# Altium footprint library SMD Capacitors Other.PcbLib: 6 footprints
Each footprint in its own frame and in the unit in brackets; x right, y up, seen from the top. Pads: shape width x height; smd on the part's side, far side on the other; paste and mask are expansions set on the pad; w line width, h text height; cw(c..) or ccw(c..) is an arc to the next point about the centre after c.
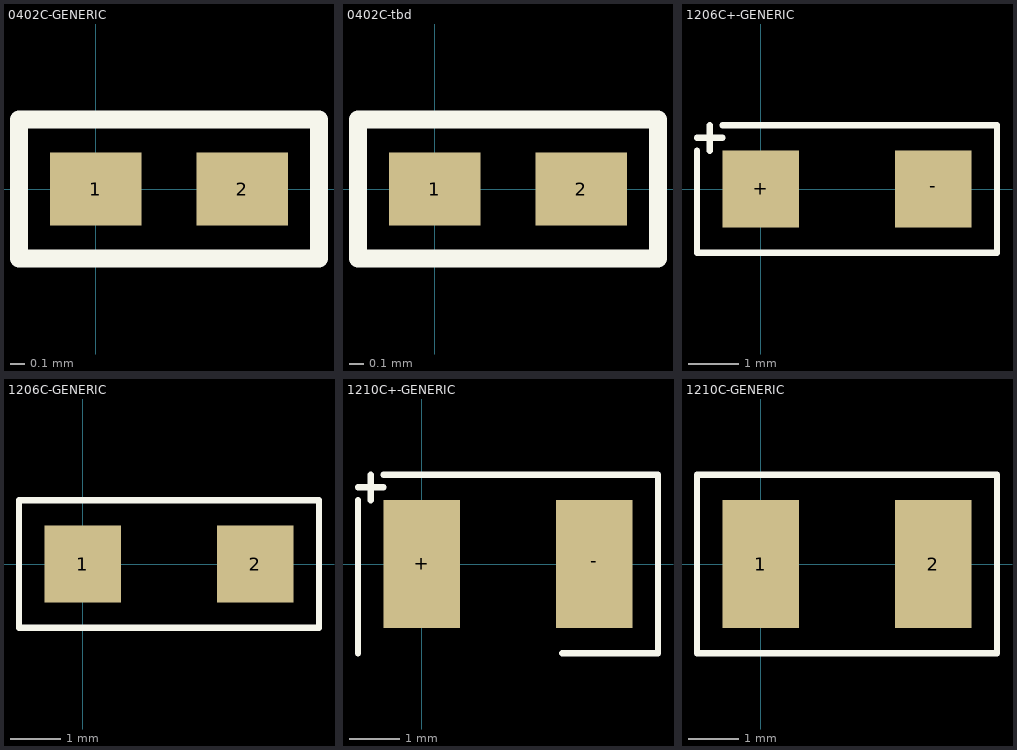
[diagram p0: the footprints below, top view; thin cyan lines are the x and y axes]

## 0402C-GENERIC [mil]
pads (2):
  rect 25x20 smd: 1(0,0) 2(40,0)
Top Overlay:
  lines w5: -21,-19 61,-19 61,19 -21,19 -21,-19

## 0402C-tbd [mil]
pads (2):
  rect 25x20 smd: 1(0,0) 2(40,0)
Top Overlay:
  lines w5: -21,-19 61,-19 61,19 -21,19 -21,-19
3D body: height 19, standoff 0, extent 32,-9 39,9
3D body: height 19, standoff 18, extent 17.5,-3 22.5,5
3D body: height 19, standoff 18, extent 19.5,-5 20.5,-4
3D body: height 19, standoff 18, extent 26,-5 27,-4
3D body: height 19, standoff 18, extent 24,-3 29,5
3D body: height 19, standoff 18, extent 13,-5 14,-4
3D body: height 19, standoff 18, extent 11,-3 16,5
3D body: height 18, standoff 0, extent 3,-8 38,8
3D body: height 19, standoff 0, extent 2,-9 9,9

## 1206C+-GENERIC [mil]
pads (2):
  rect 60x60 smd: +(0,0) -(135,0)
Top Overlay:
  lines w5: -50,30 -50,-50 185,-50 185,50 -30,50 ; -50,40 -30,40 ; -40,30 -40,50

## 1206C-GENERIC [mil]
pads (2):
  rect 60x60 smd: 1(0,0) 2(135,0)
Top Overlay:
  lines w5: -50,-50 -50,50 185,50 185,-50 -50,-50
3D body: height 46, standoff 0, extent -8,-29 22,29
3D body: height 45, standoff 0, extent 20,-28 118,28
3D body: height 23, standoff 22, extent 84.5,-16 92,-1
3D body: height 23, standoff 22, extent 74.5,-16 82,-1
3D body: height 23, standoff 22, extent 44.5,-16 52,-1
3D body: height 23, standoff 22, extent 64.5,-16 72,-1
3D body: height 23, standoff 22, extent 69,1.5 76.5,16.5
3D body: height 23, standoff 22, extent 59,1.5 66.5,16.5
3D body: height 23, standoff 22, extent 49,1.5 56.5,16.5
3D body: height 23, standoff 22, extent 39,1.5 46.5,16.5
3D body: height 23, standoff 22, extent 54.5,-16 62,-1
3D body: height 23, standoff 22, extent 79,1.5 86.5,16.5
3D body: height 23, standoff 22, extent 89,1.5 96.5,16.5
3D body: height 46, standoff 0, extent 117,-29 147,29

## 1210C+-GENERIC [mil]
pads (2):
  rect 60x100 smd: +(0,0) -(135,0)
Top Overlay:
  lines w5: -50,-70 -50,50 ; -50,60 -30,60 ; -40,50 -40,70 ; -30,70 185,70 185,-70 110,-70

## 1210C-GENERIC [mil]
pads (2):
  rect 60x100 smd: 1(0,0) 2(135,0)
Top Overlay:
  lines w5: -50,-70 185,-70 185,70 -50,70 -50,-70
3D body: height 46, standoff 0, extent -10,-50 20,50
3D body: height 45, standoff 0, extent 18,-49 116,49
3D body: height 23, standoff 22, extent 81.5,-20 89,-5
3D body: height 23, standoff 22, extent 71.5,-20 79,-5
3D body: height 23, standoff 22, extent 41.5,-20 49,-5
3D body: height 23, standoff 22, extent 61.5,-20 69,-5
3D body: height 23, standoff 22, extent 66,-2.5 73.5,12.5
3D body: height 23, standoff 22, extent 56,-2.5 63.5,12.5
3D body: height 23, standoff 22, extent 46,-2.5 53.5,12.5
3D body: height 23, standoff 22, extent 36,-2.5 43.5,12.5
3D body: height 23, standoff 22, extent 51.5,-20 59,-5
3D body: height 23, standoff 22, extent 76,-2.5 83.5,12.5
3D body: height 23, standoff 22, extent 86,-2.5 93.5,12.5
3D body: height 46, standoff 0, extent 115,-50 145,50